# EAGLE library part 745-10 (library resistor-array)
CTS 745 Series 8 Resistors, 10 Terminations
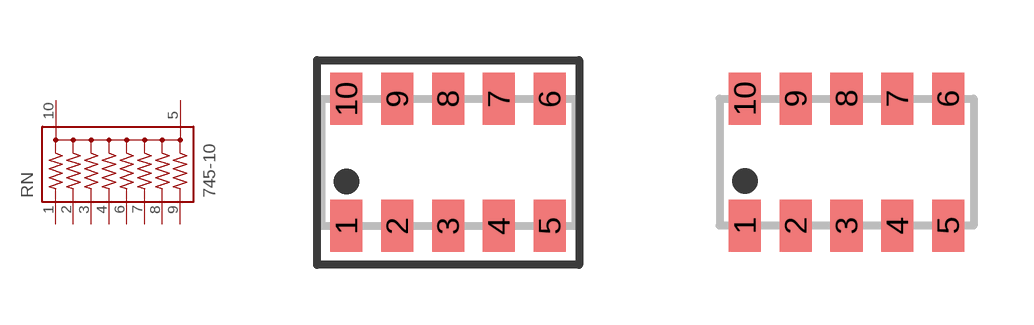
[diagram p1: symbol with the pads of 745-10; footprints 745-10, 745-10NS]

Designator prefix RN

## 745-10  [745-10]
1  1  pas
2  2  pas
3  3  pas
4  4  pas
5  5  pas
6  6  pas
7  7  pas
8  8  pas
9  9  pas
10  10  pas

## 745-10NS  [745-10NS]
Pads as for 745-10

## Footprint 745-10 (pad centres in mm)
CTS 745 Series 10 Terminations, 8 Resistors
smd 0.8 x 1.3: 1 -2.54,-1.587; 2 -1.27,-1.587; 3 0,-1.587; 4 1.27,-1.587; 5 2.54,-1.587; 6 2.54,1.587; 7 1.27,1.587; 8 0,1.587; 9 -1.27,1.587; 10 -2.54,1.587

## Footprint 745-10NS (pad centres in mm)
CTS 745 Series 10 Terminations, 8 Resistors
smd 0.8 x 1.3: 1 -2.54,-1.587; 2 -1.27,-1.587; 3 0,-1.587; 4 1.27,-1.587; 5 2.54,-1.587; 6 2.54,1.587; 7 1.27,1.587; 8 0,1.587; 9 -1.27,1.587; 10 -2.54,1.587